# Altium schematic symbol library SWT-9.SchLib: 1 symbol
Pins are listed as number, name and electrical type; pins without a type are passive.

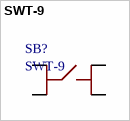
[diagram p0: symbol SWT-9]

## SWT-9
designator SB?
footprint SWT-9
pins: 1, 2, 3, 4